# Altium integrated library TI_Logic_Flip-Flop,Latch,Register.IntLib: 2598 symbols (part 75 of 122)
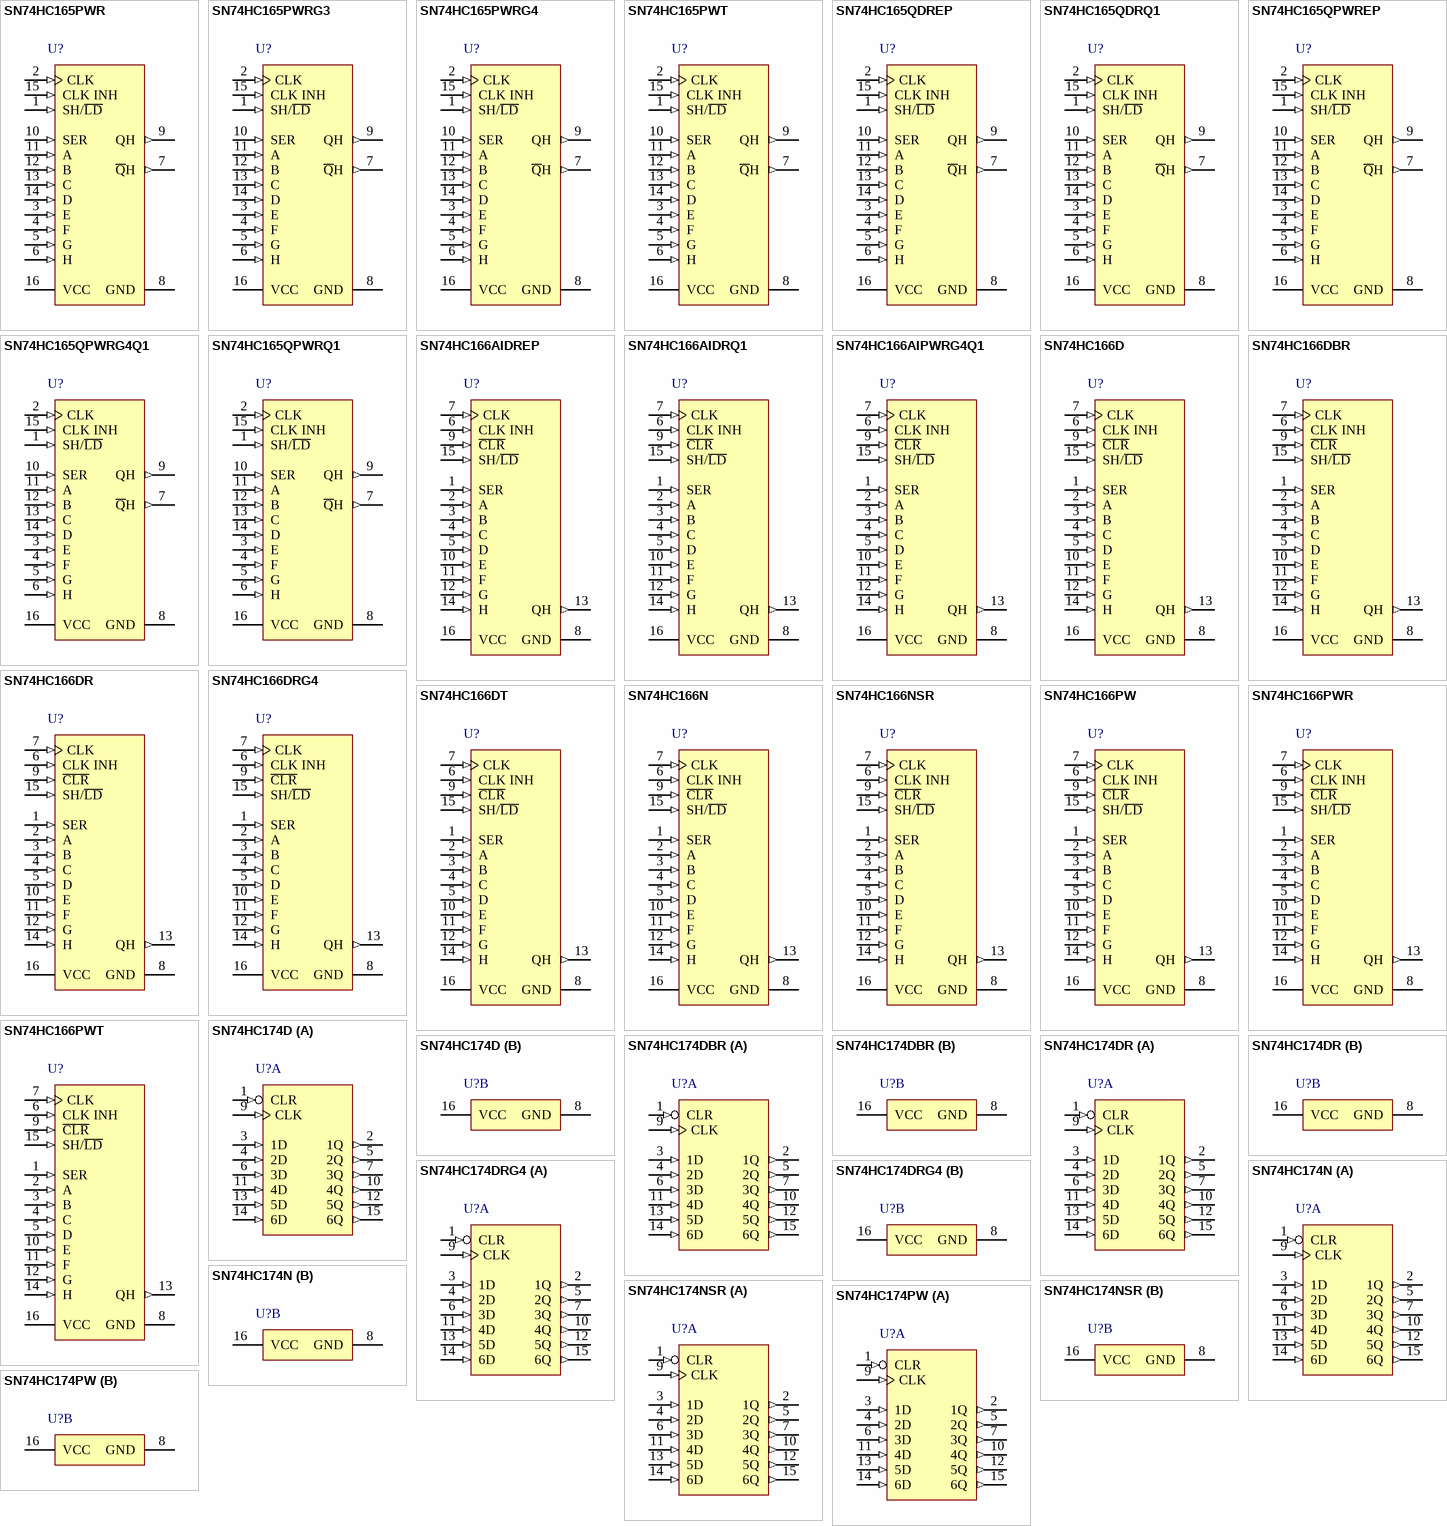
[diagram p213: symbols SN74HC165PWR to SN74HC174PW]

## SN74HC165QPWREP
designator U?
Enhanced Product 8-Bit Parallel-Load Shift Registers, PW0016A, LARGE T&R; Generic Part Number: SN74HC165-EP; Manufacturer: Texas Instruments; PartNumber: SN74HC165QPWREP; Technology Family: HC; VCC(Min)(V): 2; VCC(Max)(V): 6; F @ Nom Voltage(Max)(Mhz): 28; ICC @ Nom Voltage(Max)(mA): 0.08; tpd @ Nom Voltage(Max)(ns): 38; Output Drive (IOL/IOH)(Max)(mA): 5.2/-5.2; Input Type: CMOS; 3-State Output: No; Rating: HiRel Enhanced Product; DatasheetVersion: SCLS473A; PackageReference: PW0016A; Voltage(Nom)(V): 6; Output Type: CMOS; Operating Temperature Range(C): -40 to 125; Code_JEDEC: MO-153; ComponentLink1Description: Manufacturer URL; ComponentLink1URL: http://www.ti.com/; ComponentLink2Description: Datasheet; ComponentLink2URL: http://www.ti.com/lit/ds/symlink/sn74hc165-ep.pdf; ComponentLink3Description: Package Specification; ComponentLink3URL: http://www.ti.com/lit/ml/mpds361/mpds361.pdf
footprint PW0016A_N (SOP, 16-Leads, Body 5.1x4.5mm, Pitch 0.65mm, IPC Medium Density)
footprint PW0016A_M (SOP, 16-Leads, Body 5.1x4.5mm, Pitch 0.65mm, IPC Low Density)
footprint PW0016A_L (SOP, 16-Leads, Body 5.1x4.5mm, Pitch 0.65mm, IPC High Density)
pins: 1 SH/~{LD} (in), 2 CLK (in), 3 E (in), 4 F (in), 5 G (in), 6 H (in), 7 ~{Q}H (out), 8 GND (power), 9 QH (out), 10 SER (in), 11 A (in), 12 B (in), 13 C (in), 14 D (in), 15 CLK INH (in), 16 VCC (power)

## SN74HC165QPWRG4Q1
designator U?
Automotive Catalog 8-Bit Parallel-Load Shift Registers, PW0016A, LARGE T&R; Generic Part Number: SN74HC165-Q1; Manufacturer: Texas Instruments; PartNumber: SN74HC165QPWRG4Q1; Technology Family: HC; VCC(Min)(V): 2; VCC(Max)(V): 6; Voltage(Nom)(V): 5; F @ Nom Voltage(Max)(Mhz): 28; ICC @ Nom Voltage(Max)(mA): 0.08; tpd @ Nom Voltage(Max)(ns): 38; Output Drive (IOL/IOH)(Max)(mA): 5.2/-5.2; Input Type: CMOS; 3-State Output: No; Bits: 8; DatasheetVersion: SCLS518A; PackageReference: PW0016A; Output Type: CMOS; Rating: Automotive; Operating Temperature Range(C): -40 to 125; Code_JEDEC: MO-153; ComponentLink1Description: Manufacturer URL; ComponentLink1URL: http://www.ti.com/; ComponentLink2Description: Datasheet; ComponentLink2URL: http://www.ti.com/lit/ds/symlink/sn74hc165-q1.pdf; ComponentLink3Description: Package Specification; ComponentLink3URL: http://www.ti.com/lit/ml/mpds361/mpds361.pdf
footprint PW0016A_N (SOP, 16-Leads, Body 5.1x4.5mm, Pitch 0.65mm, IPC Medium Density)
footprint PW0016A_M (SOP, 16-Leads, Body 5.1x4.5mm, Pitch 0.65mm, IPC Low Density)
footprint PW0016A_L (SOP, 16-Leads, Body 5.1x4.5mm, Pitch 0.65mm, IPC High Density)
pins: 1 SH/~{LD} (in), 2 CLK (in), 3 E (in), 4 F (in), 5 G (in), 6 H (in), 7 ~{Q}H (out), 8 GND (power), 9 QH (out), 10 SER (in), 11 A (in), 12 B (in), 13 C (in), 14 D (in), 15 CLK INH (in), 16 VCC (power)

## SN74HC165QPWRQ1
designator U?
Automotive Catalog 8-Bit Parallel-Load Shift Registers, PW0016A, LARGE T&R; Generic Part Number: SN74HC165-Q1; Manufacturer: Texas Instruments; PartNumber: SN74HC165QPWRQ1; Technology Family: HC; VCC(Min)(V): 2; VCC(Max)(V): 6; Voltage(Nom)(V): 5; F @ Nom Voltage(Max)(Mhz): 28; ICC @ Nom Voltage(Max)(mA): 0.08; tpd @ Nom Voltage(Max)(ns): 38; Output Drive (IOL/IOH)(Max)(mA): 5.2/-5.2; Input Type: CMOS; 3-State Output: No; DatasheetVersion: SCLS518A; PackageReference: PW0016A; Output Type: CMOS; Rating: Automotive; Operating Temperature Range(C): -40 to 125; Code_JEDEC: MO-153; ComponentLink1Description: Manufacturer URL; ComponentLink1URL: http://www.ti.com/; ComponentLink2Description: Datasheet; ComponentLink2URL: http://www.ti.com/lit/ds/symlink/sn74hc165-q1.pdf; ComponentLink3Description: Package Specification; ComponentLink3URL: http://www.ti.com/lit/ml/mpds361/mpds361.pdf
footprint PW0016A_N (SOP, 16-Leads, Body 5.1x4.5mm, Pitch 0.65mm, IPC Medium Density)
footprint PW0016A_M (SOP, 16-Leads, Body 5.1x4.5mm, Pitch 0.65mm, IPC Low Density)
footprint PW0016A_L (SOP, 16-Leads, Body 5.1x4.5mm, Pitch 0.65mm, IPC High Density)
pins: 1 SH/~{LD} (in), 2 CLK (in), 3 E (in), 4 F (in), 5 G (in), 6 H (in), 7 ~{Q}H (out), 8 GND (power), 9 QH (out), 10 SER (in), 11 A (in), 12 B (in), 13 C (in), 14 D (in), 15 CLK INH (in), 16 VCC (power)

## SN74HC166AIDREP
designator U?
Enhanced Product 8-Bit Parallel-Load Shift Registers, D0016A, LARGE T&R; Generic Part Number: SN74HC166A-EP; Manufacturer: Texas Instruments; PartNumber: SN74HC166AIDREP; Technology Family: HC; VCC(Min)(V): 2; VCC(Max)(V): 6; No. of Outputs: 1; Output Drive (IOL/IOH)(Max)(mA): 4/-4; Input Type: CMOS; Rating: HiRel Enhanced Product; DatasheetVersion: SCLS559; PackageReference: D0016A; Output Type: CMOS; Operating Temperature Range(C): -40 to 85; Code_JEDEC: MS-012 variation AC; ComponentLink1Description: Manufacturer URL; ComponentLink1URL: http://www.ti.com/; ComponentLink2Description: Datasheet; ComponentLink2URL: http://www.ti.com/lit/ds/symlink/sn74hc166a-ep.pdf; ComponentLink3Description: Package Specification; ComponentLink3URL: http://www.ti.com/lit/ml/mpds178g/mpds178g.pdf
footprint D0016A_N (SOIC, 16-Leads, Body 10x4mm, Pitch 1.27mm, IPC Medium Density)
footprint D0016A_M (SOIC, 16-Leads, Body 10x4mm, Pitch 1.27mm, IPC Low Density)
footprint D0016A_L (SOIC, 16-Leads, Body 10x4mm, Pitch 1.27mm, IPC High Density)
pins: 1 SER (in), 2 A (in), 3 B (in), 4 C (in), 5 D (in), 6 CLK INH (in), 7 CLK (in), 8 GND (power), 9 ~{CLR} (in), 10 E (in), 11 F (in), 12 G (in), 13 QH (out), 14 H (in), 15 SH/~{LD} (in), 16 VCC (power)

## SN74HC166AIDRQ1
designator U?
Automotive Catalog 8-Bit Parallel-Load Shift Registers, D0016A, LARGE T&R; Generic Part Number: SN74HC166A-Q1; Manufacturer: Texas Instruments; PartNumber: SN74HC166AIDRQ1; Technology Family: HC; VCC(Min)(V): 2; VCC(Max)(V): 6; No. of Outputs: 1; Voltage(Nom)(V): 5; F @ Nom Voltage(Max)(Mhz): 28; ICC @ Nom Voltage(Max)(mA): 0.08; tpd @ Nom Voltage(Max)(ns): 32; Output Drive (IOL/IOH)(Max)(mA): 4/-4; Input Type: CMOS; DatasheetVersion: SCLS538A; PackageReference: D0016A; Output Type: CMOS; Rating: Automotive; Operating Temperature Range(C): -40 to 125, -40 to 85; Code_JEDEC: MS-012 variation AC; ComponentLink1Description: Manufacturer URL; ComponentLink1URL: http://www.ti.com/; ComponentLink2Description: Datasheet; ComponentLink2URL: http://www.ti.com/lit/ds/symlink/sn74hc166a-q1.pdf; ComponentLink3Description: Package Specification; ComponentLink3URL: http://www.ti.com/lit/ml/mpds178g/mpds178g.pdf
footprint D0016A_N (SOIC, 16-Leads, Body 10x4mm, Pitch 1.27mm, IPC Medium Density)
footprint D0016A_M (SOIC, 16-Leads, Body 10x4mm, Pitch 1.27mm, IPC Low Density)
footprint D0016A_L (SOIC, 16-Leads, Body 10x4mm, Pitch 1.27mm, IPC High Density)
pins: 1 SER (in), 2 A (in), 3 B (in), 4 C (in), 5 D (in), 6 CLK INH (in), 7 CLK (in), 8 GND (power), 9 ~{CLR} (in), 10 E (in), 11 F (in), 12 G (in), 13 QH (out), 14 H (in), 15 SH/~{LD} (in), 16 VCC (power)

## SN74HC166AIPWRG4Q1
designator U?
Automotive Catalog 8-Bit Parallel-Load Shift Registers, PW0016A, LARGE T&R; Generic Part Number: SN74HC166A-Q1; Manufacturer: Texas Instruments; PartNumber: SN74HC166AIPWRG4Q1; Technology Family: HC; VCC(Min)(V): 2; VCC(Max)(V): 6; No. of Outputs: 1; Voltage(Nom)(V): 5; F @ Nom Voltage(Max)(Mhz): 28; ICC @ Nom Voltage(Max)(mA): 0.08; tpd @ Nom Voltage(Max)(ns): 32; Output Drive (IOL/IOH)(Max)(mA): 4/-4; Input Type: CMOS; Bits: 8; DatasheetVersion: SCLS538A; PackageReference: PW0016A; Output Type: CMOS; Rating: Automotive; Operating Temperature Range(C): -40 to 125, -40 to 85; Code_JEDEC: MO-153; ComponentLink1Description: Manufacturer URL; ComponentLink1URL: http://www.ti.com/; ComponentLink2Description: Datasheet; ComponentLink2URL: http://www.ti.com/lit/ds/symlink/sn74hc166a-q1.pdf; ComponentLink3Description: Package Specification; ComponentLink3URL: http://www.ti.com/lit/ml/mpds361/mpds361.pdf
footprint PW0016A_N (SOP, 16-Leads, Body 5.1x4.5mm, Pitch 0.65mm, IPC Medium Density)
footprint PW0016A_M (SOP, 16-Leads, Body 5.1x4.5mm, Pitch 0.65mm, IPC Low Density)
footprint PW0016A_L (SOP, 16-Leads, Body 5.1x4.5mm, Pitch 0.65mm, IPC High Density)
pins: 1 SER (in), 2 A (in), 3 B (in), 4 C (in), 5 D (in), 6 CLK INH (in), 7 CLK (in), 8 GND (power), 9 ~{CLR} (in), 10 E (in), 11 F (in), 12 G (in), 13 QH (out), 14 H (in), 15 SH/~{LD} (in), 16 VCC (power)

## SN74HC166D
designator U?
8-Bit Parallel-Load Shift Registers, D0016A, TUBE; Generic Part Number: SN74HC166; Manufacturer: Texas Instruments; PartNumber: SN74HC166D; Technology Family: HC; VCC(Min)(V): 2; VCC(Max)(V): 6; F @ Nom Voltage(Max)(Mhz): 28; ICC @ Nom Voltage(Max)(mA): 0.08; tpd @ Nom Voltage(Max)(ns): 32; Output Drive (IOL/IOH)(Max)(mA): 5.2/-5.2; Input Type: CMOS; 3-State Output: No; Rating: Catalog; Bits: 8; DatasheetVersion: SCLS117D; PackageReference: D0016A; Voltage(Nom)(V): 6; Output Type: CMOS; Operating Temperature Range(C): -40 to 85; Code_JEDEC: MS-012 variation AC; ComponentLink1Description: Manufacturer URL; ComponentLink1URL: http://www.ti.com/; ComponentLink2Description: Datasheet; ComponentLink2URL: http://www.ti.com/lit/ds/symlink/sn74hc166.pdf; ComponentLink3Description: Package Specification; ComponentLink3URL: http://www.ti.com/lit/ml/mpds178g/mpds178g.pdf
footprint D0016A_N (SOIC, 16-Leads, Body 10x4mm, Pitch 1.27mm, IPC Medium Density)
footprint D0016A_M (SOIC, 16-Leads, Body 10x4mm, Pitch 1.27mm, IPC Low Density)
footprint D0016A_L (SOIC, 16-Leads, Body 10x4mm, Pitch 1.27mm, IPC High Density)
pins: 1 SER (in), 2 A (in), 3 B (in), 4 C (in), 5 D (in), 6 CLK INH (in), 7 CLK (in), 8 GND (power), 9 ~{CLR} (in), 10 E (in), 11 F (in), 12 G (in), 13 QH (out), 14 H (in), 15 SH/~{LD} (in), 16 VCC (power)

## SN74HC166DBR
designator U?
8-Bit Parallel-Load Shift Registers, DB0016A, LARGE T&R; Generic Part Number: SN74HC166; Manufacturer: Texas Instruments; PartNumber: SN74HC166DBR; Technology Family: HC; VCC(Min)(V): 2; VCC(Max)(V): 6; F @ Nom Voltage(Max)(Mhz): 28; ICC @ Nom Voltage(Max)(mA): 0.08; tpd @ Nom Voltage(Max)(ns): 32; Output Drive (IOL/IOH)(Max)(mA): 5.2/-5.2; Input Type: CMOS; 3-State Output: No; Rating: Catalog; Bits: 8; DatasheetVersion: SCLS117D; PackageReference: DB0016A; Voltage(Nom)(V): 6; Output Type: CMOS; Operating Temperature Range(C): -40 to 85; Code_JEDEC: MO-150; ComponentLink1Description: Manufacturer URL; ComponentLink1URL: http://www.ti.com/; ComponentLink2Description: Datasheet; ComponentLink2URL: http://www.ti.com/lit/ds/symlink/sn74hc166.pdf; ComponentLink3Description: Package Specification; ComponentLink3URL: http://www.ti.com/lit/ml/mpds507/mpds507.pdf
footprint DB0016A_N (SOP, 16-Leads, Body 5.6x6.5mm, Pitch 0.65mm, IPC Medium Density)
footprint DB0016A_M (SOP, 16-Leads, Body 5.6x6.5mm, Pitch 0.65mm, IPC Low Density)
footprint DB0016A_L (SOP, 16-Leads, Body 5.6x6.5mm, Pitch 0.65mm, IPC High Density)
pins: 1 SER (in), 2 A (in), 3 B (in), 4 C (in), 5 D (in), 6 CLK INH (in), 7 CLK (in), 8 GND (power), 9 ~{CLR} (in), 10 E (in), 11 F (in), 12 G (in), 13 QH (out), 14 H (in), 15 SH/~{LD} (in), 16 VCC (power)

## SN74HC166DR
designator U?
8-Bit Parallel-Load Shift Registers, D0016A, LARGE T&R; Generic Part Number: SN74HC166; Manufacturer: Texas Instruments; PartNumber: SN74HC166DR; Technology Family: HC; VCC(Min)(V): 2; VCC(Max)(V): 6; F @ Nom Voltage(Max)(Mhz): 28; ICC @ Nom Voltage(Max)(mA): 0.08; tpd @ Nom Voltage(Max)(ns): 32; Output Drive (IOL/IOH)(Max)(mA): 5.2/-5.2; Input Type: CMOS; 3-State Output: No; Rating: Catalog; DatasheetVersion: SCLS117D; PackageReference: D0016A; Voltage(Nom)(V): 6; Output Type: CMOS; Operating Temperature Range(C): -40 to 85; Code_JEDEC: MS-012 variation AC; ComponentLink1Description: Manufacturer URL; ComponentLink1URL: http://www.ti.com/; ComponentLink2Description: Datasheet; ComponentLink2URL: http://www.ti.com/lit/ds/symlink/sn74hc166.pdf; ComponentLink3Description: Package Specification; ComponentLink3URL: http://www.ti.com/lit/ml/mpds178g/mpds178g.pdf
footprint D0016A_N (SOIC, 16-Leads, Body 10x4mm, Pitch 1.27mm, IPC Medium Density)
footprint D0016A_M (SOIC, 16-Leads, Body 10x4mm, Pitch 1.27mm, IPC Low Density)
footprint D0016A_L (SOIC, 16-Leads, Body 10x4mm, Pitch 1.27mm, IPC High Density)
pins: 1 SER (in), 2 A (in), 3 B (in), 4 C (in), 5 D (in), 6 CLK INH (in), 7 CLK (in), 8 GND (power), 9 ~{CLR} (in), 10 E (in), 11 F (in), 12 G (in), 13 QH (out), 14 H (in), 15 SH/~{LD} (in), 16 VCC (power)

## SN74HC166DRG4
designator U?
8-Bit Parallel-Load Shift Registers, D0016A, LARGE T&R; Generic Part Number: SN74HC166; Manufacturer: Texas Instruments; PartNumber: SN74HC166DRG4; Technology Family: HC; VCC(Min)(V): 2; VCC(Max)(V): 6; F @ Nom Voltage(Max)(Mhz): 28; ICC @ Nom Voltage(Max)(mA): 0.08; tpd @ Nom Voltage(Max)(ns): 32; Output Drive (IOL/IOH)(Max)(mA): 5.2/-5.2; Input Type: CMOS; 3-State Output: No; Rating: Catalog; DatasheetVersion: SCLS117D; PackageReference: D0016A; Voltage(Nom)(V): 6; Output Type: CMOS; Operating Temperature Range(C): -40 to 85; Code_JEDEC: MS-012 variation AC; ComponentLink1Description: Manufacturer URL; ComponentLink1URL: http://www.ti.com/; ComponentLink2Description: Datasheet; ComponentLink2URL: http://www.ti.com/lit/ds/symlink/sn74hc166.pdf; ComponentLink3Description: Package Specification; ComponentLink3URL: http://www.ti.com/lit/ml/mpds178g/mpds178g.pdf
footprint D0016A_N (SOIC, 16-Leads, Body 10x4mm, Pitch 1.27mm, IPC Medium Density)
footprint D0016A_M (SOIC, 16-Leads, Body 10x4mm, Pitch 1.27mm, IPC Low Density)
footprint D0016A_L (SOIC, 16-Leads, Body 10x4mm, Pitch 1.27mm, IPC High Density)
pins: 1 SER (in), 2 A (in), 3 B (in), 4 C (in), 5 D (in), 6 CLK INH (in), 7 CLK (in), 8 GND (power), 9 ~{CLR} (in), 10 E (in), 11 F (in), 12 G (in), 13 QH (out), 14 H (in), 15 SH/~{LD} (in), 16 VCC (power)

## SN74HC166DT
designator U?
8-Bit Parallel-Load Shift Registers, D0016A, SMALL T&R; Generic Part Number: SN74HC166; Manufacturer: Texas Instruments; PartNumber: SN74HC166DT; Technology Family: HC; VCC(Min)(V): 2; VCC(Max)(V): 6; F @ Nom Voltage(Max)(Mhz): 28; ICC @ Nom Voltage(Max)(mA): 0.08; tpd @ Nom Voltage(Max)(ns): 32; Output Drive (IOL/IOH)(Max)(mA): 5.2/-5.2; Input Type: CMOS; 3-State Output: No; Rating: Catalog; DatasheetVersion: SCLS117D; PackageReference: D0016A; Voltage(Nom)(V): 6; Output Type: CMOS; Operating Temperature Range(C): -40 to 85; Code_JEDEC: MS-012 variation AC; ComponentLink1Description: Manufacturer URL; ComponentLink1URL: http://www.ti.com/; ComponentLink2Description: Datasheet; ComponentLink2URL: http://www.ti.com/lit/ds/symlink/sn74hc166.pdf; ComponentLink3Description: Package Specification; ComponentLink3URL: http://www.ti.com/lit/ml/mpds178g/mpds178g.pdf
footprint D0016A_N (SOIC, 16-Leads, Body 10x4mm, Pitch 1.27mm, IPC Medium Density)
footprint D0016A_M (SOIC, 16-Leads, Body 10x4mm, Pitch 1.27mm, IPC Low Density)
footprint D0016A_L (SOIC, 16-Leads, Body 10x4mm, Pitch 1.27mm, IPC High Density)
pins: 1 SER (in), 2 A (in), 3 B (in), 4 C (in), 5 D (in), 6 CLK INH (in), 7 CLK (in), 8 GND (power), 9 ~{CLR} (in), 10 E (in), 11 F (in), 12 G (in), 13 QH (out), 14 H (in), 15 SH/~{LD} (in), 16 VCC (power)

## SN74HC166N
designator U?
8-Bit Parallel-Load Shift Registers, N0016A, TUBE; Generic Part Number: SN74HC166; Manufacturer: Texas Instruments; PartNumber: SN74HC166N; Technology Family: HC; VCC(Min)(V): 2; VCC(Max)(V): 6; F @ Nom Voltage(Max)(Mhz): 28; ICC @ Nom Voltage(Max)(mA): 0.08; tpd @ Nom Voltage(Max)(ns): 32; Output Drive (IOL/IOH)(Max)(mA): 5.2/-5.2; Input Type: CMOS; 3-State Output: No; Rating: Catalog; Bits: 8; DatasheetVersion: SCLS117D; PackageReference: N0016A; Voltage(Nom)(V): 6; Output Type: CMOS; Operating Temperature Range(C): -40 to 85; Code_JEDEC: MS-001; ComponentLink1Description: Manufacturer URL; ComponentLink1URL: http://www.ti.com/; ComponentLink2Description: Datasheet; ComponentLink2URL: http://www.ti.com/lit/ds/symlink/sn74hc166.pdf; ComponentLink3Description: Package Specification; ComponentLink3URL: http://www.ti.com/lit/ml/mpdi002c/mpdi002c.pdf
footprint N0016A (DIP, 16-Leads, Body 19.7x6.6mm, Pitch 2.54mm)
pins: 1 SER (in), 2 A (in), 3 B (in), 4 C (in), 5 D (in), 6 CLK INH (in), 7 CLK (in), 8 GND (power), 9 ~{CLR} (in), 10 E (in), 11 F (in), 12 G (in), 13 QH (out), 14 H (in), 15 SH/~{LD} (in), 16 VCC (power)

## SN74HC166NSR
designator U?
8-Bit Parallel-Load Shift Registers, NS0016A, LARGE T&R; Generic Part Number: SN74HC166; Manufacturer: Texas Instruments; PartNumber: SN74HC166NSR; Technology Family: HC; VCC(Min)(V): 2; VCC(Max)(V): 6; F @ Nom Voltage(Max)(Mhz): 28; ICC @ Nom Voltage(Max)(mA): 0.08; tpd @ Nom Voltage(Max)(ns): 32; Output Drive (IOL/IOH)(Max)(mA): 5.2/-5.2; Input Type: CMOS; 3-State Output: No; Rating: Catalog; Bits: 8; DatasheetVersion: SCLS117D; PackageReference: NS0016A; Voltage(Nom)(V): 6; Output Type: CMOS; Operating Temperature Range(C): -40 to 85; ComponentLink1Description: Manufacturer URL; ComponentLink1URL: http://www.ti.com/; ComponentLink2Description: Datasheet; ComponentLink2URL: http://www.ti.com/lit/ds/symlink/sn74hc166.pdf; ComponentLink3Description: Package Specification; ComponentLink3URL: http://www.ti.com/lit/ml/msop002a/msop002a.pdf
footprint NS0016A_N (SOIC,16-Leads,Body 10.5x5.6mm,Pitch 1.27mm,IPC Medium Density)
footprint NS0016A_M (SOIC,16-Leads,Body 10.5x5.6mm,Pitch 1.27mm,IPC Low Density)
footprint NS0016A_L (SOIC,16-Leads,Body 10.5x5.6mm,Pitch 1.27mm,IPC High Density)
pins: 1 SER (in), 2 A (in), 3 B (in), 4 C (in), 5 D (in), 6 CLK INH (in), 7 CLK (in), 8 GND (power), 9 ~{CLR} (in), 10 E (in), 11 F (in), 12 G (in), 13 QH (out), 14 H (in), 15 SH/~{LD} (in), 16 VCC (power)

## SN74HC166PW
designator U?
8-Bit Parallel-Load Shift Registers, PW0016A, TUBE; Generic Part Number: SN74HC166; Manufacturer: Texas Instruments; PartNumber: SN74HC166PW; Technology Family: HC; VCC(Min)(V): 2; VCC(Max)(V): 6; F @ Nom Voltage(Max)(Mhz): 28; ICC @ Nom Voltage(Max)(mA): 0.08; tpd @ Nom Voltage(Max)(ns): 32; Output Drive (IOL/IOH)(Max)(mA): 5.2/-5.2; Input Type: CMOS; 3-State Output: No; Rating: Catalog; Bits: 8; DatasheetVersion: SCLS117D; PackageReference: PW0016A; Voltage(Nom)(V): 6; Output Type: CMOS; Operating Temperature Range(C): -40 to 85; Code_JEDEC: MO-153; ComponentLink1Description: Manufacturer URL; ComponentLink1URL: http://www.ti.com/; ComponentLink2Description: Datasheet; ComponentLink2URL: http://www.ti.com/lit/ds/symlink/sn74hc166.pdf; ComponentLink3Description: Package Specification; ComponentLink3URL: http://www.ti.com/lit/ml/mpds361/mpds361.pdf
footprint PW0016A_N (SOP, 16-Leads, Body 5.1x4.5mm, Pitch 0.65mm, IPC Medium Density)
footprint PW0016A_M (SOP, 16-Leads, Body 5.1x4.5mm, Pitch 0.65mm, IPC Low Density)
footprint PW0016A_L (SOP, 16-Leads, Body 5.1x4.5mm, Pitch 0.65mm, IPC High Density)
pins: 1 SER (in), 2 A (in), 3 B (in), 4 C (in), 5 D (in), 6 CLK INH (in), 7 CLK (in), 8 GND (power), 9 ~{CLR} (in), 10 E (in), 11 F (in), 12 G (in), 13 QH (out), 14 H (in), 15 SH/~{LD} (in), 16 VCC (power)

## SN74HC166PWR
designator U?
8-Bit Parallel-Load Shift Registers, PW0016A, LARGE T&R; Generic Part Number: SN74HC166; Manufacturer: Texas Instruments; PartNumber: SN74HC166PWR; Technology Family: HC; VCC(Min)(V): 2; VCC(Max)(V): 6; F @ Nom Voltage(Max)(Mhz): 28; ICC @ Nom Voltage(Max)(mA): 0.08; tpd @ Nom Voltage(Max)(ns): 32; Output Drive (IOL/IOH)(Max)(mA): 5.2/-5.2; Input Type: CMOS; 3-State Output: No; Rating: Catalog; Bits: 8; DatasheetVersion: SCLS117D; PackageReference: PW0016A; Voltage(Nom)(V): 6; Output Type: CMOS; Operating Temperature Range(C): -40 to 85; Code_JEDEC: MO-153; ComponentLink1Description: Manufacturer URL; ComponentLink1URL: http://www.ti.com/; ComponentLink2Description: Datasheet; ComponentLink2URL: http://www.ti.com/lit/ds/symlink/sn74hc166.pdf; ComponentLink3Description: Package Specification; ComponentLink3URL: http://www.ti.com/lit/ml/mpds361/mpds361.pdf
footprint PW0016A_N (SOP, 16-Leads, Body 5.1x4.5mm, Pitch 0.65mm, IPC Medium Density)
footprint PW0016A_M (SOP, 16-Leads, Body 5.1x4.5mm, Pitch 0.65mm, IPC Low Density)
footprint PW0016A_L (SOP, 16-Leads, Body 5.1x4.5mm, Pitch 0.65mm, IPC High Density)
pins: 1 SER (in), 2 A (in), 3 B (in), 4 C (in), 5 D (in), 6 CLK INH (in), 7 CLK (in), 8 GND (power), 9 ~{CLR} (in), 10 E (in), 11 F (in), 12 G (in), 13 QH (out), 14 H (in), 15 SH/~{LD} (in), 16 VCC (power)

## SN74HC166PWT
designator U?
8-Bit Parallel-Load Shift Registers, PW0016A, SMALL T&R; Generic Part Number: SN74HC166; Manufacturer: Texas Instruments; PartNumber: SN74HC166PWT; Technology Family: HC; VCC(Min)(V): 2; VCC(Max)(V): 6; F @ Nom Voltage(Max)(Mhz): 28; ICC @ Nom Voltage(Max)(mA): 0.08; tpd @ Nom Voltage(Max)(ns): 32; Output Drive (IOL/IOH)(Max)(mA): 5.2/-5.2; Input Type: CMOS; 3-State Output: No; Rating: Catalog; Bits: 8; DatasheetVersion: SCLS117D; PackageReference: PW0016A; Voltage(Nom)(V): 6; Output Type: CMOS; Operating Temperature Range(C): -40 to 85; Code_JEDEC: MO-153; ComponentLink1Description: Manufacturer URL; ComponentLink1URL: http://www.ti.com/; ComponentLink2Description: Datasheet; ComponentLink2URL: http://www.ti.com/lit/ds/symlink/sn74hc166.pdf; ComponentLink3Description: Package Specification; ComponentLink3URL: http://www.ti.com/lit/ml/mpds361/mpds361.pdf
footprint PW0016A_N (SOP, 16-Leads, Body 5.1x4.5mm, Pitch 0.65mm, IPC Medium Density)
footprint PW0016A_M (SOP, 16-Leads, Body 5.1x4.5mm, Pitch 0.65mm, IPC Low Density)
footprint PW0016A_L (SOP, 16-Leads, Body 5.1x4.5mm, Pitch 0.65mm, IPC High Density)
pins: 1 SER (in), 2 A (in), 3 B (in), 4 C (in), 5 D (in), 6 CLK INH (in), 7 CLK (in), 8 GND (power), 9 ~{CLR} (in), 10 E (in), 11 F (in), 12 G (in), 13 QH (out), 14 H (in), 15 SH/~{LD} (in), 16 VCC (power)

## SN74HC174D
designator U?
Hex D-Type Flip-Flops With Clear, D0016A, TUBE; Generic Part Number: SN74HC174; Manufacturer: Texas Instruments; PartNumber: SN74HC174D; VCC(Min)(V): 2; VCC(Max)(V): 6; Output Type: CMOS; Output: 2S; ICC @ Nom Voltage(Max)(mA): 0.08; F @ Nom Voltage(Max)(Mhz): 28; Rating: Catalog; Technology Family: HC; Voltage(Nom)(V): 3.3,5; Schmitt Trigger: No; Output Drive (IOL/IOH)(Max)(mA): 5.2/-5.2; Output Logic: Non-inverted; tpd @ Nom Voltage(Max)(ns): 34; DatasheetVersion: SCLS119D; PackageReference: D0016A; Supplier 1: Digi-Key; Supplier Part Number 1: 296-1195-5-ND; Supplier 2: Farnell; Supplier Part Number 2: 9591214; Supplier 3: Farnell; Supplier Part Number 3: 9591214RL; Supplier 4: Newark; Supplier Part Number 4: 08F6466; Supplier 5: Mouser; Supplier Part Number 5: 595-SN74HC174D; Input Type: CMOS; Bits(#): 6; Operating Temperature Range(C): -40 to 85; 3-State Output: No; Code_JEDEC: MS-012 variation AC; ComponentLink1Description: Manufacturer URL; ComponentLink1URL: http://www.ti.com/; ComponentLink2Description: Datasheet; ComponentLink2URL: http://www.ti.com/lit/ds/symlink/sn74hc174.pdf; ComponentLink3Description: Package Specification; ComponentLink3URL: http://www.ti.com/lit/ml/mpds178g/mpds178g.pdf
footprint D0016A_N (SOIC, 16-Leads, Body 10x4mm, Pitch 1.27mm, IPC Medium Density)
footprint D0016A_M (SOIC, 16-Leads, Body 10x4mm, Pitch 1.27mm, IPC Low Density)
footprint D0016A_L (SOIC, 16-Leads, Body 10x4mm, Pitch 1.27mm, IPC High Density)
part A pins: 1 CLR (in), 2 1Q (out), 3 1D (in), 4 2D (in), 5 2Q (out), 6 3D (in), 7 3Q (out), 9 CLK (in), 10 4Q (out), 11 4D (in), 12 5Q (out), 13 5D (in), 14 6D (in), 15 6Q (out)
part B pins: 8 GND (power), 16 VCC (power)

## SN74HC174DBR
designator U?
Hex D-Type Flip-Flops With Clear, DB0016A, LARGE T&R; Generic Part Number: SN74HC174; Manufacturer: Texas Instruments; PartNumber: SN74HC174DBR; VCC(Min)(V): 2; VCC(Max)(V): 6; Output Type: CMOS; Output: 2S; ICC @ Nom Voltage(Max)(mA): 0.08; F @ Nom Voltage(Max)(Mhz): 28; Rating: Catalog; Technology Family: HC; Voltage(Nom)(V): 3.3,5; Schmitt Trigger: No; Output Drive (IOL/IOH)(Max)(mA): 5.2/-5.2; Output Logic: Non-inverted; tpd @ Nom Voltage(Max)(ns): 34; DatasheetVersion: SCLS119D; PackageReference: DB0016A; Supplier 1: Digi-Key; Supplier Part Number 1: 296-19249-2-ND; Supplier 2: Digi-Key; Supplier Part Number 2: 296-19249-1-ND; Supplier 3: Digi-Key; Supplier Part Number 3: 296-19249-6-ND; Supplier 4: Mouser; Supplier Part Number 4: 595-SN74HC174DBR; Input Type: CMOS; Bits(#): 6; Operating Temperature Range(C): -40 to 85; 3-State Output: No; Code_JEDEC: MO-150; ComponentLink1Description: Manufacturer URL; ComponentLink1URL: http://www.ti.com/; ComponentLink2Description: Datasheet; ComponentLink2URL: http://www.ti.com/lit/ds/symlink/sn74hc174.pdf; ComponentLink3Description: Package Specification; ComponentLink3URL: http://www.ti.com/lit/ml/mpds507/mpds507.pdf
footprint DB0016A_N (SOP, 16-Leads, Body 5.6x6.5mm, Pitch 0.65mm, IPC Medium Density)
footprint DB0016A_M (SOP, 16-Leads, Body 5.6x6.5mm, Pitch 0.65mm, IPC Low Density)
footprint DB0016A_L (SOP, 16-Leads, Body 5.6x6.5mm, Pitch 0.65mm, IPC High Density)
part A pins: 1 CLR (in), 2 1Q (out), 3 1D (in), 4 2D (in), 5 2Q (out), 6 3D (in), 7 3Q (out), 9 CLK (in), 10 4Q (out), 11 4D (in), 12 5Q (out), 13 5D (in), 14 6D (in), 15 6Q (out)
part B pins: 8 GND (power), 16 VCC (power)

## SN74HC174DR
designator U?
Hex D-Type Flip-Flops With Clear, D0016A, LARGE T&R; Generic Part Number: SN74HC174; Manufacturer: Texas Instruments; PartNumber: SN74HC174DR; VCC(Min)(V): 2; VCC(Max)(V): 6; Output Type: CMOS; Output: 2S; ICC @ Nom Voltage(Max)(mA): 0.08; F @ Nom Voltage(Max)(Mhz): 28; Rating: Catalog; Technology Family: HC; Voltage(Nom)(V): 3.3,5; Schmitt Trigger: No; Output Drive (IOL/IOH)(Max)(mA): 5.2/-5.2; Output Logic: Non-inverted; tpd @ Nom Voltage(Max)(ns): 34; DatasheetVersion: SCLS119D; PackageReference: D0016A; Supplier 1: Digi-Key; Supplier Part Number 1: 296-1195-2-ND; Supplier 2: Digi-Key; Supplier Part Number 2: 296-1195-1-ND; Supplier 3: Digi-Key; Supplier Part Number 3: 296-1195-6-ND; Supplier 4: Farnell; Supplier Part Number 4: 2436979; Supplier 5: Farnell; Supplier Part Number 5: 9853677; Supplier 6: Newark; Supplier Part Number 6: 79R0039; Supplier 7: Newark; Supplier Part Number 7: 35K0806; Supplier 8: Mouser; Supplier Part Number 8: 595-SN74HC174DR; Input Type: CMOS; Bits(#): 6; Operating Temperature Range(C): -40 to 85; 3-State Output: No; Code_JEDEC: MS-012 variation AC; ComponentLink1Description: Manufacturer URL; ComponentLink1URL: http://www.ti.com/; ComponentLink2Description: Datasheet; ComponentLink2URL: http://www.ti.com/lit/ds/symlink/sn74hc174.pdf; ComponentLink3Description: Package Specification; ComponentLink3URL: http://www.ti.com/lit/ml/mpds178g/mpds178g.pdf
footprint D0016A_N (SOIC, 16-Leads, Body 10x4mm, Pitch 1.27mm, IPC Medium Density)
footprint D0016A_M (SOIC, 16-Leads, Body 10x4mm, Pitch 1.27mm, IPC Low Density)
footprint D0016A_L (SOIC, 16-Leads, Body 10x4mm, Pitch 1.27mm, IPC High Density)
part A pins: 1 CLR (in), 2 1Q (out), 3 1D (in), 4 2D (in), 5 2Q (out), 6 3D (in), 7 3Q (out), 9 CLK (in), 10 4Q (out), 11 4D (in), 12 5Q (out), 13 5D (in), 14 6D (in), 15 6Q (out)
part B pins: 8 GND (power), 16 VCC (power)

## SN74HC174DRG4
designator U?
Hex D-Type Flip-Flops With Clear, D0016A, LARGE T&R; Generic Part Number: SN74HC174; Manufacturer: Texas Instruments; PartNumber: SN74HC174DRG4; VCC(Min)(V): 2; VCC(Max)(V): 6; Output Type: CMOS; Output: 2S; ICC @ Nom Voltage(Max)(mA): 0.08; F @ Nom Voltage(Max)(Mhz): 28; Rating: Catalog; Technology Family: HC; Voltage(Nom)(V): 3.3,5; Schmitt Trigger: No; Output Drive (IOL/IOH)(Max)(mA): 5.2/-5.2; Output Logic: Non-inverted; tpd @ Nom Voltage(Max)(ns): 34; DatasheetVersion: SCLS119D; PackageReference: D0016A; Supplier 1: Digi-Key; Supplier Part Number 1: 296-31798-2-ND; Supplier 2: Digi-Key; Supplier Part Number 2: 296-31798-1-ND; Supplier 3: Digi-Key; Supplier Part Number 3: 296-31798-6-ND; Supplier 4: Mouser; Supplier Part Number 4: 595-SN74HC174DRG4; Input Type: CMOS; Bits(#): 6; Operating Temperature Range(C): -40 to 85; 3-State Output: No; Code_JEDEC: MS-012 variation AC; ComponentLink1Description: Manufacturer URL; ComponentLink1URL: http://www.ti.com/; ComponentLink2Description: Datasheet; ComponentLink2URL: http://www.ti.com/lit/ds/symlink/sn74hc174.pdf; ComponentLink3Description: Package Specification; ComponentLink3URL: http://www.ti.com/lit/ml/mpds178g/mpds178g.pdf
footprint D0016A_N (SOIC, 16-Leads, Body 10x4mm, Pitch 1.27mm, IPC Medium Density)
footprint D0016A_M (SOIC, 16-Leads, Body 10x4mm, Pitch 1.27mm, IPC Low Density)
footprint D0016A_L (SOIC, 16-Leads, Body 10x4mm, Pitch 1.27mm, IPC High Density)
part A pins: 1 CLR (in), 2 1Q (out), 3 1D (in), 4 2D (in), 5 2Q (out), 6 3D (in), 7 3Q (out), 9 CLK (in), 10 4Q (out), 11 4D (in), 12 5Q (out), 13 5D (in), 14 6D (in), 15 6Q (out)
part B pins: 8 GND (power), 16 VCC (power)

## SN74HC174N
designator U?
Hex D-Type Flip-Flops With Clear, N0016A, TUBE; Generic Part Number: SN74HC174; Manufacturer: Texas Instruments; PartNumber: SN74HC174N; VCC(Min)(V): 2; VCC(Max)(V): 6; Output Type: CMOS; Output: 2S; ICC @ Nom Voltage(Max)(mA): 0.08; F @ Nom Voltage(Max)(Mhz): 28; Rating: Catalog; Technology Family: HC; Voltage(Nom)(V): 3.3,5; Schmitt Trigger: No; Output Drive (IOL/IOH)(Max)(mA): 5.2/-5.2; Output Logic: Non-inverted; tpd @ Nom Voltage(Max)(ns): 34; DatasheetVersion: SCLS119D; PackageReference: N0016A; Supplier 1: Farnell; Supplier Part Number 1: 1287531; Supplier 2: Newark; Supplier Part Number 2: 08F6467; Supplier 3: Mouser; Supplier Part Number 3: 595-SN74HC174N; Input Type: CMOS; Bits(#): 6; Operating Temperature Range(C): -40 to 85; 3-State Output: No; Code_JEDEC: MS-001; ComponentLink1Description: Manufacturer URL; ComponentLink1URL: http://www.ti.com/; ComponentLink2Description: Datasheet; ComponentLink2URL: http://www.ti.com/lit/ds/symlink/sn74hc174.pdf; ComponentLink3Description: Package Specification; ComponentLink3URL: http://www.ti.com/lit/ml/mpdi002c/mpdi002c.pdf
footprint N0016A (DIP, 16-Leads, Body 19.7x6.6mm, Pitch 2.54mm)
part A pins: 1 CLR (in), 2 1Q (out), 3 1D (in), 4 2D (in), 5 2Q (out), 6 3D (in), 7 3Q (out), 9 CLK (in), 10 4Q (out), 11 4D (in), 12 5Q (out), 13 5D (in), 14 6D (in), 15 6Q (out)
part B pins: 8 GND (power), 16 VCC (power)

## SN74HC174NSR
designator U?
Hex D-Type Flip-Flops With Clear, NS0016A, LARGE T&R; Generic Part Number: SN74HC174; Manufacturer: Texas Instruments; PartNumber: SN74HC174NSR; VCC(Min)(V): 2; VCC(Max)(V): 6; Output Type: CMOS; Output: 2S; ICC @ Nom Voltage(Max)(mA): 0.08; F @ Nom Voltage(Max)(Mhz): 28; Rating: Catalog; Technology Family: HC; Voltage(Nom)(V): 3.3,5; Schmitt Trigger: No; Output Drive (IOL/IOH)(Max)(mA): 5.2/-5.2; Output Logic: Non-inverted; tpd @ Nom Voltage(Max)(ns): 34; DatasheetVersion: SCLS119D; PackageReference: NS0016A; Supplier 1: Digi-Key; Supplier Part Number 1: 296-13215-2-ND; Supplier 2: Digi-Key; Supplier Part Number 2: 296-13215-1-ND; Supplier 3: Digi-Key; Supplier Part Number 3: 296-13215-6-ND; Supplier 4: Mouser; Supplier Part Number 4: 595-SN74HC174NSR; Input Type: CMOS; Bits(#): 6; Operating Temperature Range(C): -40 to 85; 3-State Output: No; ComponentLink1Description: Manufacturer URL; ComponentLink1URL: http://www.ti.com/; ComponentLink2Description: Datasheet; ComponentLink2URL: http://www.ti.com/lit/ds/symlink/sn74hc174.pdf; ComponentLink3Description: Package Specification; ComponentLink3URL: http://www.ti.com/lit/ml/msop002a/msop002a.pdf
footprint NS0016A_N (SOIC,16-Leads,Body 10.5x5.6mm,Pitch 1.27mm,IPC Medium Density)
footprint NS0016A_M (SOIC,16-Leads,Body 10.5x5.6mm,Pitch 1.27mm,IPC Low Density)
footprint NS0016A_L (SOIC,16-Leads,Body 10.5x5.6mm,Pitch 1.27mm,IPC High Density)
part A pins: 1 CLR (in), 2 1Q (out), 3 1D (in), 4 2D (in), 5 2Q (out), 6 3D (in), 7 3Q (out), 9 CLK (in), 10 4Q (out), 11 4D (in), 12 5Q (out), 13 5D (in), 14 6D (in), 15 6Q (out)
part B pins: 8 GND (power), 16 VCC (power)

## SN74HC174PW
designator U?
Hex D-Type Flip-Flops With Clear, PW0016A, TUBE; Generic Part Number: SN74HC174; Manufacturer: Texas Instruments; PartNumber: SN74HC174PW; VCC(Min)(V): 2; VCC(Max)(V): 6; Output Type: CMOS; Output: 2S; ICC @ Nom Voltage(Max)(mA): 0.08; F @ Nom Voltage(Max)(Mhz): 28; Rating: Catalog; Technology Family: HC; Voltage(Nom)(V): 3.3,5; Schmitt Trigger: No; Output Drive (IOL/IOH)(Max)(mA): 5.2/-5.2; Output Logic: Non-inverted; tpd @ Nom Voltage(Max)(ns): 34; DatasheetVersion: SCLS119D; PackageReference: PW0016A; Supplier 1: Digi-Key; Supplier Part Number 1: SN74HC174PW-ND; Supplier 2: Farnell; Supplier Part Number 2: 1741120; Supplier 3: Newark; Supplier Part Number 3: 34R8746; Supplier 4: Mouser; Supplier Part Number 4: 595-SN74HC174PW; Input Type: CMOS; Bits(#): 6; Operating Temperature Range(C): -40 to 85; 3-State Output: No; Code_JEDEC: MO-153; ComponentLink1Description: Manufacturer URL; ComponentLink1URL: http://www.ti.com/; ComponentLink2Description: Datasheet; ComponentLink2URL: http://www.ti.com/lit/ds/symlink/sn74hc174.pdf; ComponentLink3Description: Package Specification; ComponentLink3URL: http://www.ti.com/lit/ml/mpds361/mpds361.pdf
footprint PW0016A_N (SOP, 16-Leads, Body 5.1x4.5mm, Pitch 0.65mm, IPC Medium Density)
footprint PW0016A_M (SOP, 16-Leads, Body 5.1x4.5mm, Pitch 0.65mm, IPC Low Density)
footprint PW0016A_L (SOP, 16-Leads, Body 5.1x4.5mm, Pitch 0.65mm, IPC High Density)
part A pins: 1 CLR (in), 2 1Q (out), 3 1D (in), 4 2D (in), 5 2Q (out), 6 3D (in), 7 3Q (out), 9 CLK (in), 10 4Q (out), 11 4D (in), 12 5Q (out), 13 5D (in), 14 6D (in), 15 6Q (out)
part B pins: 8 GND (power), 16 VCC (power)

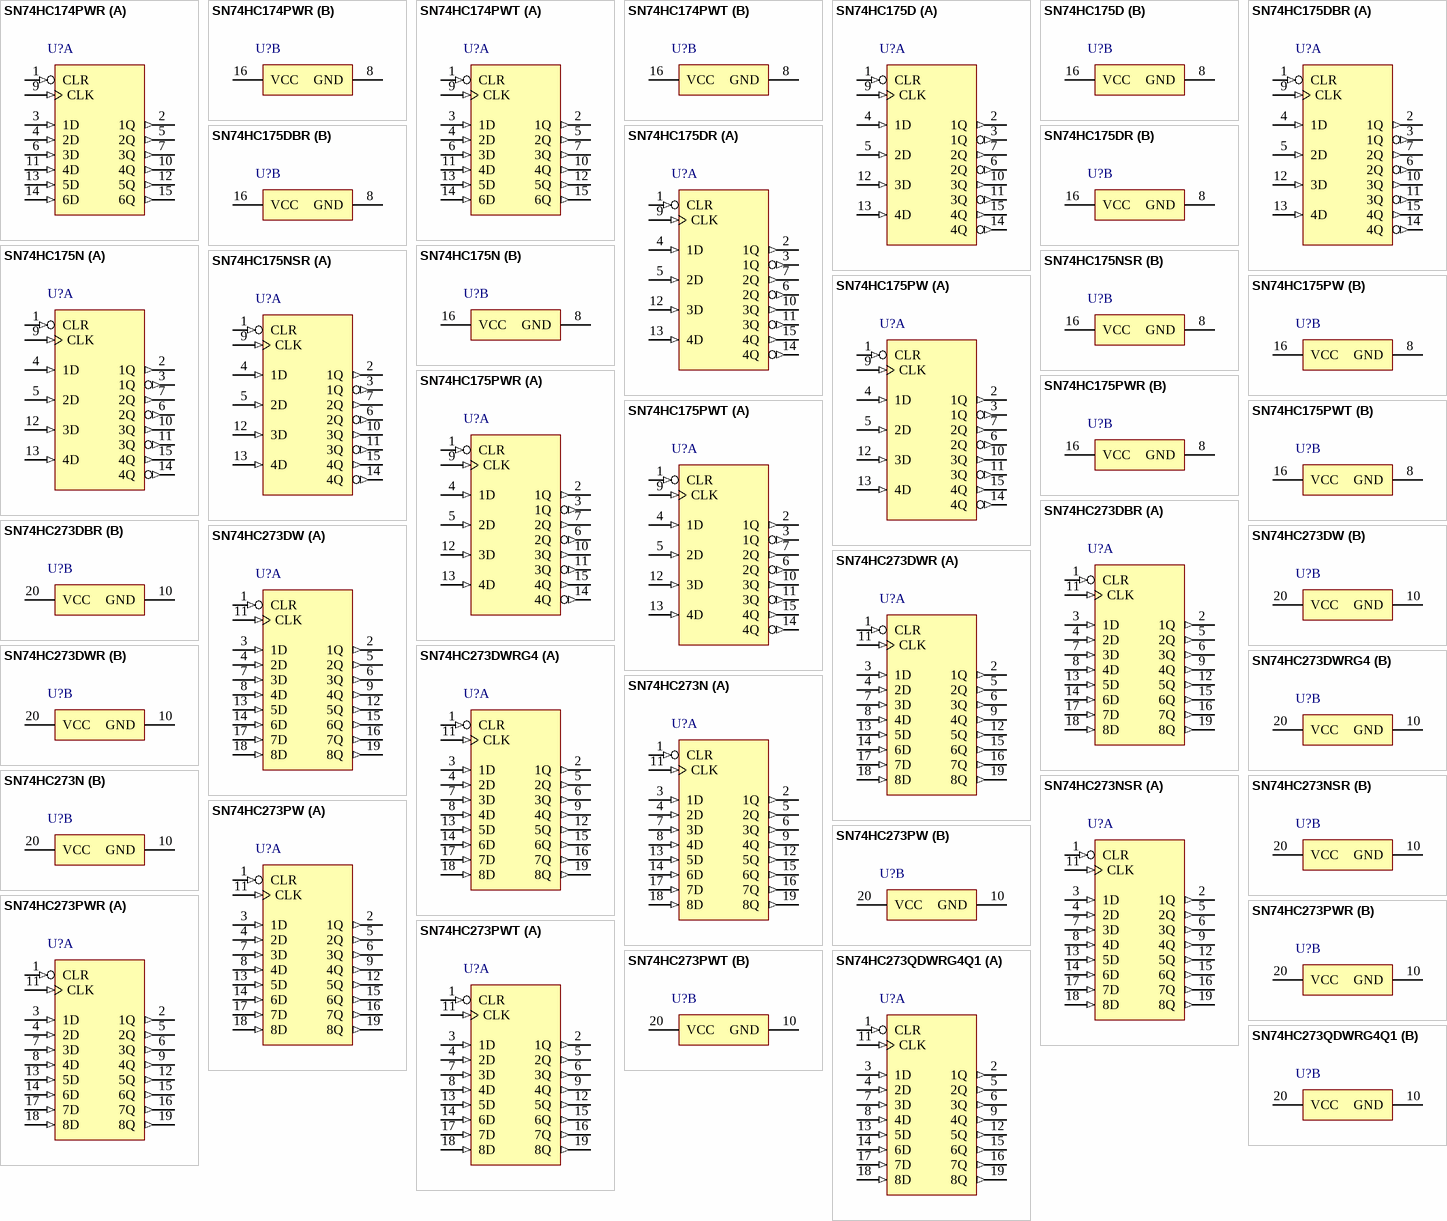
[diagram p89: symbols SN74HC174PWR to SN74HC273QDWRG4Q1]

## SN74HC174PWR
designator U?
Hex D-Type Flip-Flops With Clear, PW0016A, LARGE T&R; Generic Part Number: SN74HC174; Manufacturer: Texas Instruments; PartNumber: SN74HC174PWR; VCC(Min)(V): 2; VCC(Max)(V): 6; Output Type: CMOS; Output: 2S; ICC @ Nom Voltage(Max)(mA): 0.08; F @ Nom Voltage(Max)(Mhz): 28; Rating: Catalog; Technology Family: HC; Voltage(Nom)(V): 3.3,5; Schmitt Trigger: No; Output Drive (IOL/IOH)(Max)(mA): 5.2/-5.2; Output Logic: Non-inverted; tpd @ Nom Voltage(Max)(ns): 34; DatasheetVersion: SCLS119D; PackageReference: PW0016A; Supplier 1: Digi-Key; Supplier Part Number 1: 296-41633-2-ND; Supplier 2: Digi-Key; Supplier Part Number 2: 296-41633-1-ND; Supplier 3: Digi-Key; Supplier Part Number 3: 296-41633-6-ND; Supplier 4: Mouser; Supplier Part Number 4: 595-SN74HC174PWR; Input Type: CMOS; Bits(#): 6; Operating Temperature Range(C): -40 to 85; 3-State Output: No; Code_JEDEC: MO-153; ComponentLink1Description: Manufacturer URL; ComponentLink1URL: http://www.ti.com/; ComponentLink2Description: Datasheet; ComponentLink2URL: http://www.ti.com/lit/ds/symlink/sn74hc174.pdf; ComponentLink3Description: Package Specification; ComponentLink3URL: http://www.ti.com/lit/ml/mpds361/mpds361.pdf
footprint PW0016A_N (SOP, 16-Leads, Body 5.1x4.5mm, Pitch 0.65mm, IPC Medium Density)
footprint PW0016A_M (SOP, 16-Leads, Body 5.1x4.5mm, Pitch 0.65mm, IPC Low Density)
footprint PW0016A_L (SOP, 16-Leads, Body 5.1x4.5mm, Pitch 0.65mm, IPC High Density)
part A pins: 1 CLR (in), 2 1Q (out), 3 1D (in), 4 2D (in), 5 2Q (out), 6 3D (in), 7 3Q (out), 9 CLK (in), 10 4Q (out), 11 4D (in), 12 5Q (out), 13 5D (in), 14 6D (in), 15 6Q (out)
part B pins: 8 GND (power), 16 VCC (power)

## SN74HC174PWT
designator U?
Hex D-Type Flip-Flops With Clear, PW0016A, SMALL T&R; Generic Part Number: SN74HC174; Manufacturer: Texas Instruments; PartNumber: SN74HC174PWT; VCC(Min)(V): 2; VCC(Max)(V): 6; Output Type: CMOS; Output: 2S; ICC @ Nom Voltage(Max)(mA): 0.08; F @ Nom Voltage(Max)(Mhz): 28; Rating: Catalog; Technology Family: HC; Voltage(Nom)(V): 3.3,5; Schmitt Trigger: No; Output Drive (IOL/IOH)(Max)(mA): 5.2/-5.2; Output Logic: Non-inverted; tpd @ Nom Voltage(Max)(ns): 34; DatasheetVersion: SCLS119D; PackageReference: PW0016A; Supplier 1: Digi-Key; Supplier Part Number 1: 296-23256-2-ND; Supplier 2: Digi-Key; Supplier Part Number 2: 296-23256-1-ND; Supplier 3: Digi-Key; Supplier Part Number 3: 296-23256-6-ND; Supplier 4: Farnell; Supplier Part Number 4: 2406870; Supplier 5: Newark; Supplier Part Number 5: 45Y7756; Supplier 6: Mouser; Supplier Part Number 6: 595-SN74HC174PWT; Input Type: CMOS; Bits(#): 6; Operating Temperature Range(C): -40 to 85; 3-State Output: No; Code_JEDEC: MO-153; ComponentLink1Description: Manufacturer URL; ComponentLink1URL: http://www.ti.com/; ComponentLink2Description: Datasheet; ComponentLink2URL: http://www.ti.com/lit/ds/symlink/sn74hc174.pdf; ComponentLink3Description: Package Specification; ComponentLink3URL: http://www.ti.com/lit/ml/mpds361/mpds361.pdf
footprint PW0016A_N (SOP, 16-Leads, Body 5.1x4.5mm, Pitch 0.65mm, IPC Medium Density)
footprint PW0016A_M (SOP, 16-Leads, Body 5.1x4.5mm, Pitch 0.65mm, IPC Low Density)
footprint PW0016A_L (SOP, 16-Leads, Body 5.1x4.5mm, Pitch 0.65mm, IPC High Density)
part A pins: 1 CLR (in), 2 1Q (out), 3 1D (in), 4 2D (in), 5 2Q (out), 6 3D (in), 7 3Q (out), 9 CLK (in), 10 4Q (out), 11 4D (in), 12 5Q (out), 13 5D (in), 14 6D (in), 15 6Q (out)
part B pins: 8 GND (power), 16 VCC (power)

## SN74HC175D
designator U?
Quadruple D-Type Flip-Flops With Clear, D0016A, TUBE; Generic Part Number: SN74HC175; Manufacturer: Texas Instruments; PartNumber: SN74HC175D; VCC(Min)(V): 2; VCC(Max)(V): 6; Output Type: CMOS; Output: 2S; ICC @ Nom Voltage(Max)(mA): 0.08; Bits(#): 4; F @ Nom Voltage(Max)(Mhz): 28; Rating: Catalog; Technology Family: HC; Voltage(Nom)(V): 3.3,5; Schmitt Trigger: No; Output Drive (IOL/IOH)(Max)(mA): 5.2/-5.2; Output Logic: Inverted,Non-inverted; tpd @ Nom Voltage(Max)(ns): 32; DatasheetVersion: SCLS299D; PackageReference: D0016A; Supplier 1: Digi-Key; Supplier Part Number 1: 296-8256-5-ND; Supplier 2: Farnell; Supplier Part Number 2: 9591222; Supplier 3: Newark; Supplier Part Number 3: 52F2344; Supplier 4: Mouser; Supplier Part Number 4: 595-SN74HC175D; Input Type: CMOS; Operating Temperature Range(C): -40 to 85; 3-State Output: No; Code_JEDEC: MS-012 variation AC; ComponentLink1Description: Manufacturer URL; ComponentLink1URL: http://www.ti.com/; ComponentLink2Description: Datasheet; ComponentLink2URL: http://www.ti.com/lit/ds/symlink/sn74hc175.pdf; ComponentLink3Description: Package Specification; ComponentLink3URL: http://www.ti.com/lit/ml/mpds178g/mpds178g.pdf
footprint D0016A_N (SOIC, 16-Leads, Body 10x4mm, Pitch 1.27mm, IPC Medium Density)
footprint D0016A_M (SOIC, 16-Leads, Body 10x4mm, Pitch 1.27mm, IPC Low Density)
footprint D0016A_L (SOIC, 16-Leads, Body 10x4mm, Pitch 1.27mm, IPC High Density)
part A pins: 1 CLR (in), 2 1Q (out), 3 1Q (out), 4 1D (in), 5 2D (in), 6 2Q (out), 7 2Q (out), 9 CLK (in), 10 3Q (out), 11 3Q (out), 12 3D (in), 13 4D (in), 14 4Q (out), 15 4Q (out)
part B pins: 8 GND (power), 16 VCC (power)

## SN74HC175DBR
designator U?
Quadruple D-Type Flip-Flops With Clear, DB0016A, LARGE T&R; Generic Part Number: SN74HC175; Manufacturer: Texas Instruments; PartNumber: SN74HC175DBR; VCC(Min)(V): 2; VCC(Max)(V): 6; Output Type: CMOS; Output: 2S; ICC @ Nom Voltage(Max)(mA): 0.08; Bits(#): 4; F @ Nom Voltage(Max)(Mhz): 28; Rating: Catalog; Technology Family: HC; Voltage(Nom)(V): 3.3,5; Schmitt Trigger: No; Output Drive (IOL/IOH)(Max)(mA): 5.2/-5.2; Output Logic: Inverted,Non-inverted; tpd @ Nom Voltage(Max)(ns): 32; DatasheetVersion: SCLS299D; PackageReference: DB0016A; Supplier 1: Digi-Key; Supplier Part Number 1: SN74HC175DBR-ND; Supplier 2: Mouser; Supplier Part Number 2: 595-SN74HC175DBR; Input Type: CMOS; Operating Temperature Range(C): -40 to 85; 3-State Output: No; Code_JEDEC: MO-150; ComponentLink1Description: Manufacturer URL; ComponentLink1URL: http://www.ti.com/; ComponentLink2Description: Datasheet; ComponentLink2URL: http://www.ti.com/lit/ds/symlink/sn74hc175.pdf; ComponentLink3Description: Package Specification; ComponentLink3URL: http://www.ti.com/lit/ml/mpds507/mpds507.pdf
footprint DB0016A_N (SOP, 16-Leads, Body 5.6x6.5mm, Pitch 0.65mm, IPC Medium Density)
footprint DB0016A_M (SOP, 16-Leads, Body 5.6x6.5mm, Pitch 0.65mm, IPC Low Density)
footprint DB0016A_L (SOP, 16-Leads, Body 5.6x6.5mm, Pitch 0.65mm, IPC High Density)
part A pins: 1 CLR (in), 2 1Q (out), 3 1Q (out), 4 1D (in), 5 2D (in), 6 2Q (out), 7 2Q (out), 9 CLK (in), 10 3Q (out), 11 3Q (out), 12 3D (in), 13 4D (in), 14 4Q (out), 15 4Q (out)
part B pins: 8 GND (power), 16 VCC (power)

## SN74HC175DR
designator U?
Quadruple D-Type Flip-Flops With Clear, D0016A, LARGE T&R; Generic Part Number: SN74HC175; Manufacturer: Texas Instruments; PartNumber: SN74HC175DR; VCC(Min)(V): 2; VCC(Max)(V): 6; Output Type: CMOS; Output: 2S; ICC @ Nom Voltage(Max)(mA): 0.08; Bits(#): 4; F @ Nom Voltage(Max)(Mhz): 28; Rating: Catalog; Technology Family: HC; Voltage(Nom)(V): 3.3,5; Schmitt Trigger: No; Output Drive (IOL/IOH)(Max)(mA): 5.2/-5.2; Output Logic: Inverted,Non-inverted; tpd @ Nom Voltage(Max)(ns): 32; DatasheetVersion: SCLS299D; PackageReference: D0016A; Supplier 1: Digi-Key; Supplier Part Number 1: 296-14840-2-ND; Supplier 2: Digi-Key; Supplier Part Number 2: 296-14840-1-ND; Supplier 3: Digi-Key; Supplier Part Number 3: 296-14840-6-ND; Supplier 4: Farnell; Supplier Part Number 4: 2436980; Supplier 5: Newark; Supplier Part Number 5: 76C3483; Supplier 6: Mouser; Supplier Part Number 6: 595-SN74HC175DR; Input Type: CMOS; Operating Temperature Range(C): -40 to 85; 3-State Output: No; Code_JEDEC: MS-012 variation AC; ComponentLink1Description: Manufacturer URL; ComponentLink1URL: http://www.ti.com/; ComponentLink2Description: Datasheet; ComponentLink2URL: http://www.ti.com/lit/ds/symlink/sn74hc175.pdf; ComponentLink3Description: Package Specification; ComponentLink3URL: http://www.ti.com/lit/ml/mpds178g/mpds178g.pdf
footprint D0016A_N (SOIC, 16-Leads, Body 10x4mm, Pitch 1.27mm, IPC Medium Density)
footprint D0016A_M (SOIC, 16-Leads, Body 10x4mm, Pitch 1.27mm, IPC Low Density)
footprint D0016A_L (SOIC, 16-Leads, Body 10x4mm, Pitch 1.27mm, IPC High Density)
part A pins: 1 CLR (in), 2 1Q (out), 3 1Q (out), 4 1D (in), 5 2D (in), 6 2Q (out), 7 2Q (out), 9 CLK (in), 10 3Q (out), 11 3Q (out), 12 3D (in), 13 4D (in), 14 4Q (out), 15 4Q (out)
part B pins: 8 GND (power), 16 VCC (power)

## SN74HC175N
designator U?
Quadruple D-Type Flip-Flops With Clear, N0016A, TUBE; Generic Part Number: SN74HC175; Manufacturer: Texas Instruments; PartNumber: SN74HC175N; VCC(Min)(V): 2; VCC(Max)(V): 6; Output Type: CMOS; Output: 2S; ICC @ Nom Voltage(Max)(mA): 0.08; Bits(#): 4; F @ Nom Voltage(Max)(Mhz): 28; Rating: Catalog; Technology Family: HC; Voltage(Nom)(V): 3.3,5; Schmitt Trigger: No; Output Drive (IOL/IOH)(Max)(mA): 5.2/-5.2; Output Logic: Inverted,Non-inverted; tpd @ Nom Voltage(Max)(ns): 32; DatasheetVersion: SCLS299D; PackageReference: N0016A; Supplier 1: Digi-Key; Supplier Part Number 1: 296-8257-5-ND; Supplier 2: Farnell; Supplier Part Number 2: 9591230; Supplier 3: Newark; Supplier Part Number 3: 60K6830; Supplier 4: Mouser; Supplier Part Number 4: 595-SN74HC175N; Input Type: CMOS; Operating Temperature Range(C): -40 to 85; 3-State Output: No; Code_JEDEC: MS-001; ComponentLink1Description: Manufacturer URL; ComponentLink1URL: http://www.ti.com/; ComponentLink2Description: Datasheet; ComponentLink2URL: http://www.ti.com/lit/ds/symlink/sn74hc175.pdf; ComponentLink3Description: Package Specification; ComponentLink3URL: http://www.ti.com/lit/ml/mpdi002c/mpdi002c.pdf
footprint N0016A (DIP, 16-Leads, Body 19.7x6.6mm, Pitch 2.54mm)
part A pins: 1 CLR (in), 2 1Q (out), 3 1Q (out), 4 1D (in), 5 2D (in), 6 2Q (out), 7 2Q (out), 9 CLK (in), 10 3Q (out), 11 3Q (out), 12 3D (in), 13 4D (in), 14 4Q (out), 15 4Q (out)
part B pins: 8 GND (power), 16 VCC (power)

## SN74HC175NSR
designator U?
Quadruple D-Type Flip-Flops With Clear, NS0016A, LARGE T&R; Generic Part Number: SN74HC175; Manufacturer: Texas Instruments; PartNumber: SN74HC175NSR; VCC(Min)(V): 2; VCC(Max)(V): 6; Output Type: CMOS; Output: 2S; ICC @ Nom Voltage(Max)(mA): 0.08; Bits(#): 4; F @ Nom Voltage(Max)(Mhz): 28; Rating: Catalog; Technology Family: HC; Voltage(Nom)(V): 3.3,5; Schmitt Trigger: No; Output Drive (IOL/IOH)(Max)(mA): 5.2/-5.2; Output Logic: Inverted,Non-inverted; tpd @ Nom Voltage(Max)(ns): 32; DatasheetVersion: SCLS299D; PackageReference: NS0016A; Supplier 1: Digi-Key; Supplier Part Number 1: 296-28938-2-ND; Supplier 2: Digi-Key; Supplier Part Number 2: 296-28938-1-ND; Supplier 3: Digi-Key; Supplier Part Number 3: 296-28938-6-ND; Supplier 4: Newark; Supplier Part Number 4: 76C3484; Supplier 5: Mouser; Supplier Part Number 5: 595-SN74HC175NSR; Input Type: CMOS; Operating Temperature Range(C): -40 to 85; 3-State Output: No; ComponentLink1Description: Manufacturer URL; ComponentLink1URL: http://www.ti.com/; ComponentLink2Description: Datasheet; ComponentLink2URL: http://www.ti.com/lit/ds/symlink/sn74hc175.pdf; ComponentLink3Description: Package Specification; ComponentLink3URL: http://www.ti.com/lit/ml/msop002a/msop002a.pdf
footprint NS0016A_N (SOIC,16-Leads,Body 10.5x5.6mm,Pitch 1.27mm,IPC Medium Density)
footprint NS0016A_M (SOIC,16-Leads,Body 10.5x5.6mm,Pitch 1.27mm,IPC Low Density)
footprint NS0016A_L (SOIC,16-Leads,Body 10.5x5.6mm,Pitch 1.27mm,IPC High Density)
part A pins: 1 CLR (in), 2 1Q (out), 3 1Q (out), 4 1D (in), 5 2D (in), 6 2Q (out), 7 2Q (out), 9 CLK (in), 10 3Q (out), 11 3Q (out), 12 3D (in), 13 4D (in), 14 4Q (out), 15 4Q (out)
part B pins: 8 GND (power), 16 VCC (power)

## SN74HC175PW
designator U?
Quadruple D-Type Flip-Flops With Clear, PW0016A, TUBE; Generic Part Number: SN74HC175; Manufacturer: Texas Instruments; PartNumber: SN74HC175PW; VCC(Min)(V): 2; VCC(Max)(V): 6; Output Type: CMOS; Output: 2S; ICC @ Nom Voltage(Max)(mA): 0.08; Bits(#): 4; F @ Nom Voltage(Max)(Mhz): 28; Rating: Catalog; Technology Family: HC; Voltage(Nom)(V): 3.3,5; Schmitt Trigger: No; Output Drive (IOL/IOH)(Max)(mA): 5.2/-5.2; Output Logic: Inverted,Non-inverted; tpd @ Nom Voltage(Max)(ns): 32; DatasheetVersion: SCLS299D; PackageReference: PW0016A; Supplier 1: Digi-Key; Supplier Part Number 1: 296-33924-5-ND; Supplier 2: Farnell; Supplier Part Number 2: 1741114; Supplier 3: Newark; Supplier Part Number 3: 50R6454; Supplier 4: Mouser; Supplier Part Number 4: 595-SN74HC175PW; Input Type: CMOS; Operating Temperature Range(C): -40 to 85; 3-State Output: No; Code_JEDEC: MO-153; ComponentLink1Description: Manufacturer URL; ComponentLink1URL: http://www.ti.com/; ComponentLink2Description: Datasheet; ComponentLink2URL: http://www.ti.com/lit/ds/symlink/sn74hc175.pdf; ComponentLink3Description: Package Specification; ComponentLink3URL: http://www.ti.com/lit/ml/mpds361/mpds361.pdf
footprint PW0016A_N (SOP, 16-Leads, Body 5.1x4.5mm, Pitch 0.65mm, IPC Medium Density)
footprint PW0016A_M (SOP, 16-Leads, Body 5.1x4.5mm, Pitch 0.65mm, IPC Low Density)
footprint PW0016A_L (SOP, 16-Leads, Body 5.1x4.5mm, Pitch 0.65mm, IPC High Density)
part A pins: 1 CLR (in), 2 1Q (out), 3 1Q (out), 4 1D (in), 5 2D (in), 6 2Q (out), 7 2Q (out), 9 CLK (in), 10 3Q (out), 11 3Q (out), 12 3D (in), 13 4D (in), 14 4Q (out), 15 4Q (out)
part B pins: 8 GND (power), 16 VCC (power)

## SN74HC175PWR
designator U?
Quadruple D-Type Flip-Flops With Clear, PW0016A, LARGE T&R; Generic Part Number: SN74HC175; Manufacturer: Texas Instruments; PartNumber: SN74HC175PWR; VCC(Min)(V): 2; VCC(Max)(V): 6; Output Type: CMOS; Output: 2S; ICC @ Nom Voltage(Max)(mA): 0.08; Bits(#): 4; F @ Nom Voltage(Max)(Mhz): 28; Rating: Catalog; Technology Family: HC; Voltage(Nom)(V): 3.3,5; Schmitt Trigger: No; Output Drive (IOL/IOH)(Max)(mA): 5.2/-5.2; Output Logic: Inverted,Non-inverted; tpd @ Nom Voltage(Max)(ns): 32; DatasheetVersion: SCLS299D; PackageReference: PW0016A; Supplier 1: Digi-Key; Supplier Part Number 1: 296-8258-2-ND; Supplier 2: Digi-Key; Supplier Part Number 2: 296-8258-1-ND; Supplier 3: Digi-Key; Supplier Part Number 3: 296-8258-6-ND; Supplier 4: Newark; Supplier Part Number 4: 76C3485; Supplier 5: Mouser; Supplier Part Number 5: 595-SN74HC175PWR; Input Type: CMOS; Operating Temperature Range(C): -40 to 85; 3-State Output: No; Code_JEDEC: MO-153; ComponentLink1Description: Manufacturer URL; ComponentLink1URL: http://www.ti.com/; ComponentLink2Description: Datasheet; ComponentLink2URL: http://www.ti.com/lit/ds/symlink/sn74hc175.pdf; ComponentLink3Description: Package Specification; ComponentLink3URL: http://www.ti.com/lit/ml/mpds361/mpds361.pdf
footprint PW0016A_N (SOP, 16-Leads, Body 5.1x4.5mm, Pitch 0.65mm, IPC Medium Density)
footprint PW0016A_M (SOP, 16-Leads, Body 5.1x4.5mm, Pitch 0.65mm, IPC Low Density)
footprint PW0016A_L (SOP, 16-Leads, Body 5.1x4.5mm, Pitch 0.65mm, IPC High Density)
part A pins: 1 CLR (in), 2 1Q (out), 3 1Q (out), 4 1D (in), 5 2D (in), 6 2Q (out), 7 2Q (out), 9 CLK (in), 10 3Q (out), 11 3Q (out), 12 3D (in), 13 4D (in), 14 4Q (out), 15 4Q (out)
part B pins: 8 GND (power), 16 VCC (power)